# EAGLE library part CY62256N (library Transputer)
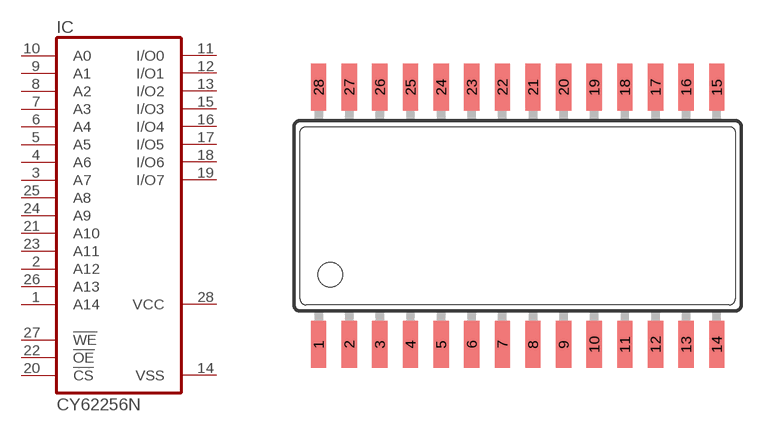
[diagram p16: symbol with the pads of SOP28N; footprint SOP28N]

Designator prefix IC

## CY62256N  [SOP28N]
1  A14  in
2  A12  in
3  A7  in
4  A6  in
5  A5  in
6  A4  in
7  A3  in
8  A2  in
9  A1  in
10  A0  in
11  I/O0
12  I/O1
13  I/O2
14  VSS  pwr
15  I/O3
16  I/O4
17  I/O5
18  I/O6
19  I/O7
20  !CS  in
21  A10  in
22  !OE  in
23  A11  in
24  A9  in
25  A8  in
26  A13  in
27  !WE  in
28  VCC  pwr

## Footprint SOP28N (pad centres in mm)
smd 0.635 x 1.956: 1 -8.255,-5.334; 2 -6.985,-5.334; 3 -5.715,-5.334; 4 -4.445,-5.334; 5 -3.175,-5.334; 6 -1.905,-5.334; 7 -0.635,-5.334; 8 0.635,-5.334; 9 1.905,-5.334; 10 3.175,-5.334; 11 4.445,-5.334; 12 5.715,-5.334; 13 6.985,-5.334; 14 8.255,-5.334; 15 8.255,5.334; 16 6.985,5.334; 17 5.715,5.334; 18 4.445,5.334; 19 3.175,5.334; 20 1.905,5.334; 21 0.635,5.334; 22 -0.635,5.334; 23 -1.905,5.334; 24 -3.175,5.334; 25 -4.445,5.334; 26 -5.715,5.334; 27 -6.985,5.334; 28 -8.255,5.334